# EAGLE library part NUCLEO-F401RE-BOTTOM (library MITCH Shield)
STM32 Nucleo-64 development board with STM32F401RET6 MCU, supports Arduino and ST morpho connectivity Check prices <https://pricing.snapeda.com/parts/NUCLEO-F401RE/STMicroelectronics/view-part?ref=eda>
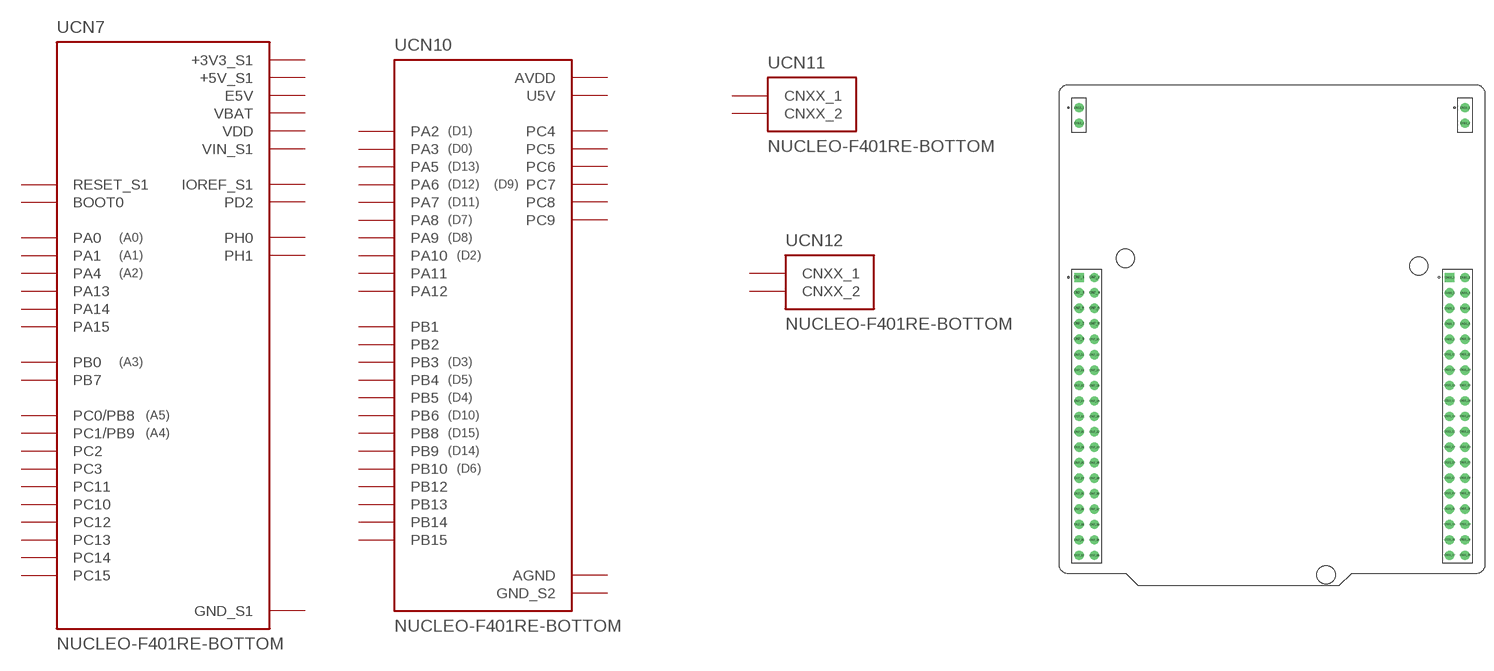
[diagram p1: symbol with the pads of ST_NUCLEO-F401RE_BOTTOM; footprint ST_NUCLEO-F401RE_BOTTOM]

Designator prefix U; gates CN7=NUCLEO-F401RE_IO-1 CN10=NUCLEO-F401RE_IO-2 CN11=NUCLEO-F401RE_CN2PIN CN12=NUCLEO-F401RE_CN2PIN

## NUCLEO-F401RE-BOTTOM (AVAILABILITY: Warning; DESCRIPTION: STM32F401RE, mbed-Enabled Development Nucleo-64 STM32F4 ARM® Cortex®-M4 MCU 32-Bit Embedded Evaluation Board; MF: STMicroelectronics; MP: NUCLEO-F401RE; PACKAGE: None; PRICE: None; PURCHASE-URL: https://pricing.snapeda.com/search/part/NUCLEO-F401RE/?ref=eda)  [ST_NUCLEO-F401RE_BOTTOM]
CN7_1  CN7:PC10
CN7_2  CN7:PC11
CN7_3  CN7:PC12
CN7_4  CN7:PD2
CN7_5  CN7:VDD  pwr
CN7_6  CN7:E5V  pwr
CN7_7  CN7:BOOT0
CN7_8  CN7:GND_S1  pwr
CN7_12  CN7:IOREF_S1
CN7_13  CN7:PA13
CN7_14  CN7:RESET_S1
CN7_15  CN7:PA14
CN7_16  CN7:+3V3_S1  pwr
CN7_17  CN7:PA15
CN7_18  CN7:+5V_S1  pwr
CN7_19  CN7:GND_S1  pwr
CN7_20  CN7:GND_S1  pwr
CN7_21  CN7:PB7
CN7_22  CN7:GND_S1  pwr
CN7_23  CN7:PC13
CN7_24  CN7:VIN_S1  pwr
CN7_25  CN7:PC14
CN7_27  CN7:PC15
CN7_28  CN7:PA0
CN7_29  CN7:PH0
CN7_30  CN7:PA1
CN7_31  CN7:PH1
CN7_32  CN7:PA4
CN7_33  CN7:VBAT  pwr
CN7_34  CN7:PB0
CN7_35  CN7:PC2
CN7_36  CN7:PC1/PB9
CN7_37  CN7:PC3
CN7_38  CN7:PC0/PB8
CN10_1  CN10:PC9
CN10_2  CN10:PC8
CN10_3  CN10:PB8
CN10_4  CN10:PC6
CN10_5  CN10:PB9
CN10_6  CN10:PC5
CN10_7  CN10:AVDD  pwr
CN10_8  CN10:U5V  pwr
CN10_9  CN10:GND_S2  pwr
CN10_11  CN10:PA5
CN10_12  CN10:PA12
CN10_13  CN10:PA6
CN10_14  CN10:PA11
CN10_15  CN10:PA7
CN10_16  CN10:PB12
CN10_17  CN10:PB6
CN10_19  CN10:PC7
CN10_20  CN10:GND_S2  pwr
CN10_21  CN10:PA9
CN10_22  CN10:PB2
CN10_23  CN10:PA8
CN10_24  CN10:PB1
CN10_25  CN10:PB10
CN10_26  CN10:PB15
CN10_27  CN10:PB4
CN10_28  CN10:PB14
CN10_29  CN10:PB5
CN10_30  CN10:PB13
CN10_31  CN10:PB3
CN10_32  CN10:AGND  pwr
CN10_33  CN10:PA10
CN10_34  CN10:PC4
CN10_35  CN10:PA2
CN10_37  CN10:PA3
CN11_1  CN11:CNXX_1  in
CN11_2  CN11:CNXX_2  in
CN12_1  CN12:CNXX_1  in
CN12_2  CN12:CNXX_2  in

## Footprint ST_NUCLEO-F401RE_BOTTOM (pad centres in mm)
drill 1.02 square: CN7_1 -31.75,10.16; CN10_1 29.21,10.16
drill 1.02: CN7_2 -29.21,10.16; CN7_3 -31.75,7.62; CN7_4 -29.21,7.62; CN7_5 -31.75,5.08; CN7_6 -29.21,5.08; CN7_7 -31.75,2.54; CN7_8 -29.21,2.54; CN7_9 -31.75,0; CN7_10 -29.21,0; CN7_11 -31.75,-2.54; CN7_12 -29.21,-2.54; CN7_13 -31.75,-5.08; CN7_14 -29.21,-5.08; CN7_15 -31.75,-7.62; CN7_16 -29.21,-7.62; CN7_17 -31.75,-10.16; CN7_18 -29.21,-10.16; CN7_19 -31.75,-12.7; CN7_20 -29.21,-12.7; CN7_21 -31.75,-15.24; CN7_22 -29.21,-15.24; CN7_23 -31.75,-17.78; CN7_24 -29.21,-17.78; CN7_25 -31.75,-20.32; CN7_26 -29.21,-20.32; CN7_27 -31.75,-22.86; CN7_28 -29.21,-22.86; CN7_29 -31.75,-25.4; CN7_30 -29.21,-25.4; CN7_31 -31.75,-27.94; CN7_32 -29.21,-27.94; CN7_33 -31.75,-30.48; CN7_34 -29.21,-30.48; CN7_35 -31.75,-33.02; CN7_36 -29.21,-33.02; CN7_37 -31.75,-35.56; CN7_38 -29.21,-35.56; CN10_2 31.75,10.16; CN10_3 29.21,7.62; CN10_4 31.75,7.62; CN10_5 29.21,5.08; CN10_6 31.75,5.08; CN10_7 29.21,2.54; CN10_8 31.75,2.54; CN10_9 29.21,0; CN10_10 31.75,0; CN10_11 29.21,-2.54; CN10_12 31.75,-2.54; CN10_13 29.21,-5.08; CN10_14 31.75,-5.08; CN10_15 29.21,-7.62; CN10_16 31.75,-7.62; CN10_17 29.21,-10.16; CN10_18 31.75,-10.16; CN10_19 29.21,-12.7; CN10_20 31.75,-12.7; CN10_21 29.21,-15.24; CN10_22 31.75,-15.24; CN10_23 29.21,-17.78; CN10_24 31.75,-17.78; CN10_25 29.21,-20.32; CN10_26 31.75,-20.32; CN10_27 29.21,-22.86; CN10_28 31.75,-22.86; CN10_29 29.21,-25.4; CN10_30 31.75,-25.4; CN10_31 29.21,-27.94; CN10_32 31.75,-27.94; CN10_33 29.21,-30.48; CN10_34 31.75,-30.48; CN10_35 29.21,-33.02; CN10_36 31.75,-33.02; CN10_37 29.21,-35.56; CN10_38 31.75,-35.56; CN11_1 31.75,38.1; CN11_2 31.75,35.56; CN12_1 -31.75,38.1; CN12_2 -31.75,35.56
hole 3 at 8.89,-38.75
hole 3 at 24.13,12.05
hole 3 at -24.13,13.32